# Altium footprint library PcbLib2.PcbLib: 15 footprints
Each footprint in its own frame and in the unit in brackets; x right, y up, seen from the top. Pads: shape width x height; smd on the part's side, far side on the other; paste and mask are expansions set on the pad; w line width, h text height; cw(c..) or ccw(c..) is an arc to the next point about the centre after c.
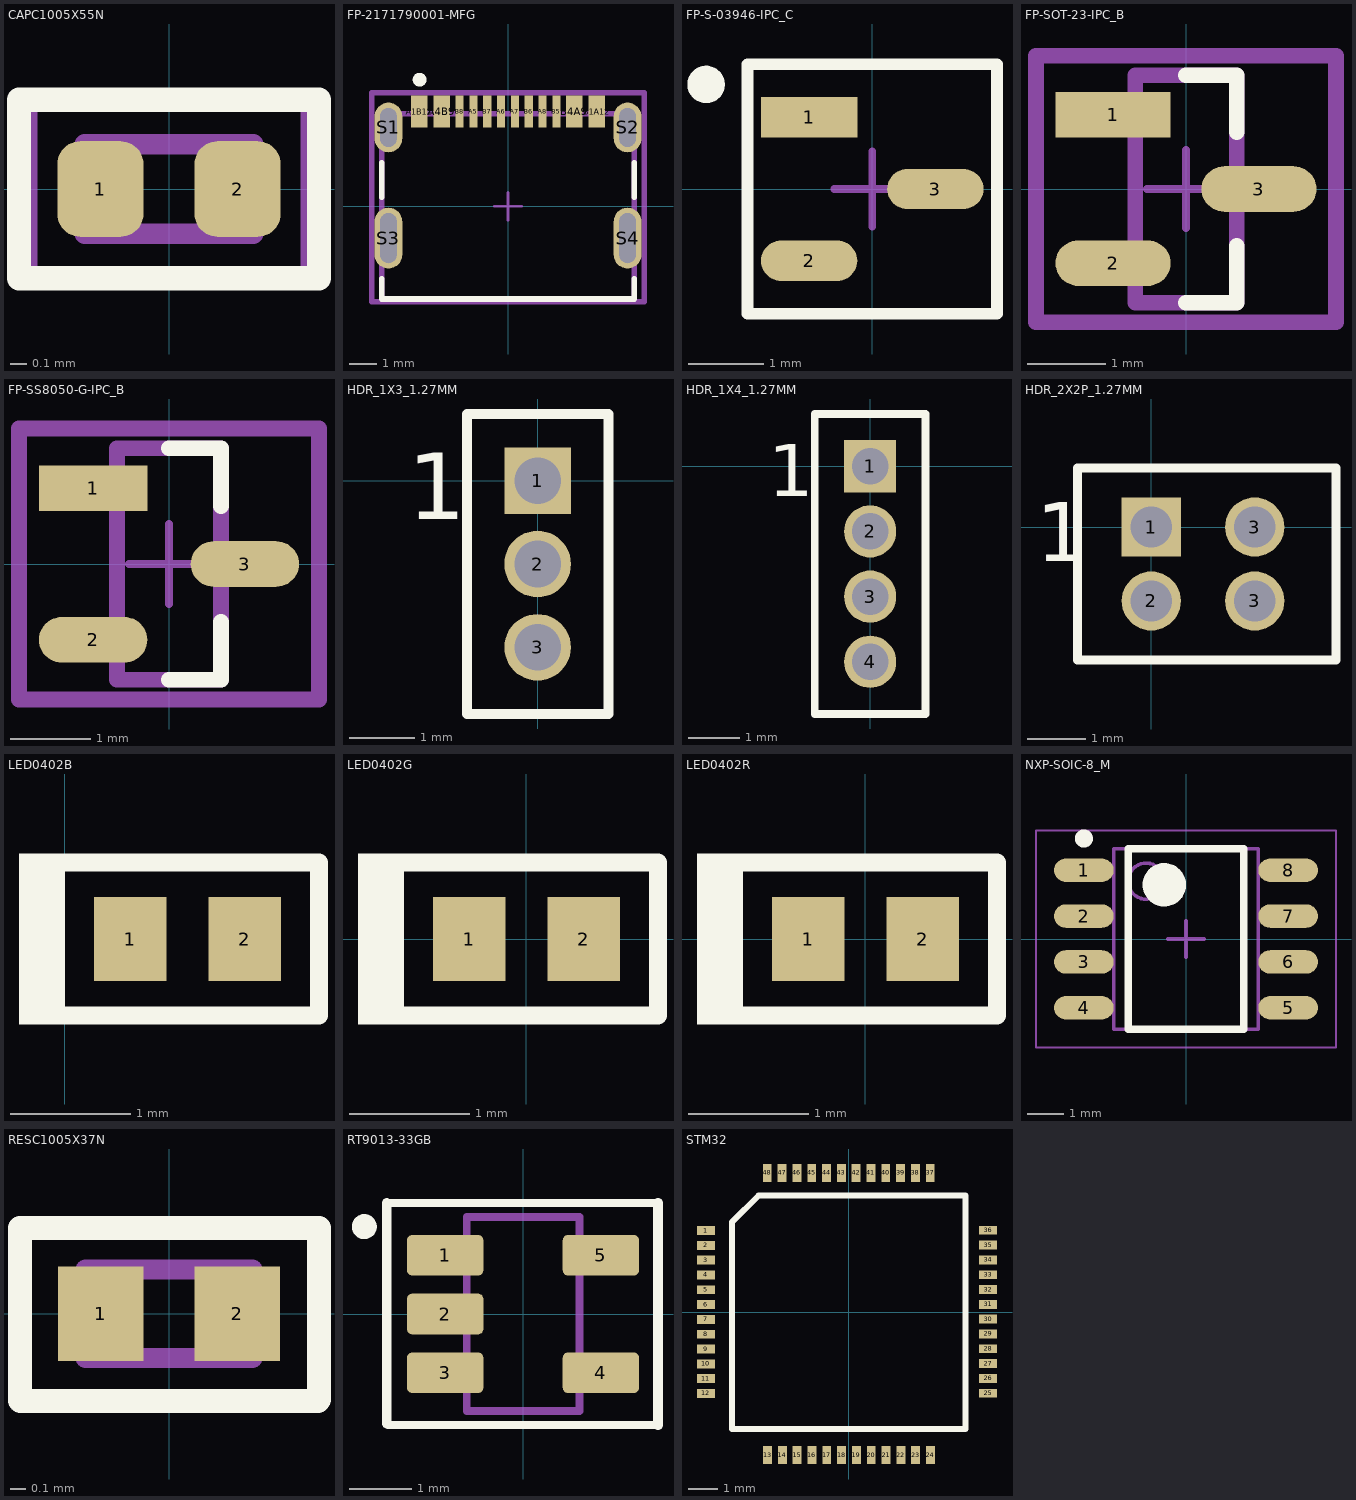
[diagram p0: the footprints below, top view; thin cyan lines are the x and y axes]

## CAPC1005X55N [mm]
pads (2):
  rrect53% 0.54x0.6 smd: 1(-0.43,0) 2(0.43,0)
Top Overlay:
  lines w0.152: -0.94,-0.559 0.94,-0.559 0.94,0.559 -0.94,0.559 -0.94,-0.559
Top 3D Body:
  lines w0.127: -0.53,-0.28 -0.53,0.28 0.53,0.28 0.53,-0.28 -0.53,-0.28
Top Courtyard:
  lines w0.05: -0.85,-0.54 -0.85,0.54 0.85,0.54 0.85,-0.54 -0.85,-0.54
3D body "CL05A105KL5NRNC.step": height 0.55, standoff 0, extent -0.5,-0.25 0.5,0.25

## FP-2171790001-MFG [mm]
pads (16):
  rect 0.6x1.15 smd paste+0 mask+0: A1B12(-3.2,3.425) A4B9(-2.4,3.425) B1A12(3.2,3.425) B4A9(2.4,3.425)
  rect 0.3x1.15 smd paste+0 mask+0: A5(-1.25,3.425) A6(-0.25,3.425) A7(0.25,3.425) A8(1.25,3.425) B5(1.75,3.425) B6(0.75,3.425) B7(-0.75,3.425) B8(-1.75,3.425)
  rrect100% 1x1.8 hole 1.4 slot 0.6 at 0 deg paste-2539.97 mask+0: S1(-4.32,2.85) S2(4.32,2.85)
  rrect100% 1x2.2 hole 1.8 slot 0.6 at 0 deg paste-2539.97 mask+0: S3(-4.32,-1.15) S4(4.32,-1.15)
Top Overlay:
  circle w0.25: c-3.195,4.575 r0.125
  lines w0.2: -4.57,-2.625 -4.57,-3.35 4.57,-3.35 4.57,-2.625 ; -4.57,0.325 -4.57,1.575 ; 4.57,0.325 4.57,1.575
Top Assembly:
  lines w0.2: -4.92,-3.45 -4.92,4.1 4.92,4.1 4.92,-3.45 -4.92,-3.45
  text ".Designator" at 0,0.512 h1
Top 3D Body:
  lines w0.2: -4.57,-3.35 -4.57,3.35 4.57,3.35 4.57,-3.35 -4.57,-3.35
Top Courtyard:
  lines w0.2: -4.92,-3.45 -4.92,4.1 4.92,4.1 4.92,-3.45 -4.92,-3.45
Top Component Center:
  lines w0.1: -0.5,0 0.5,0 ; 0,-0.5 0,0.5
3D body "Conn_Molex_2171790001_eec.STEP": height 0.25, standoff 0, extent -4.92,-3.45 4.92,4.1

## FP-S-03946-IPC_C [mm]
pads (3):
  rect 1.274x0.536 smd paste+0 mask+0: 1(-0.835,0.95)
  rrect100% 1.274x0.536 smd paste+0 mask+0: 2(-0.835,-0.95) 3(0.835,0)
Top Overlay:
  circle w0.254: c-2.199,1.384 r0.121
  lines w0.152: -1.651,-1.651 1.651,-1.651 1.651,1.651 -1.651,1.651 -1.651,-1.651
Top Component Center:
  lines w0.1: -0.5,0 0.5,0 ; 0,-0.5 0,0.5
3D body "Trans_Vishay_SQ2308CES-T1_BE3_eec.STEP": height 0.25, standoff 0, extent -1.572,-1.56 1.572,1.56

## FP-SOT-23-IPC_B [mm]
pads (3):
  rect 1.474x0.585 smd paste+0 mask+0: 1(-0.935,0.95)
  rrect100% 1.474x0.585 smd paste+0 mask+0: 2(-0.935,-0.95) 3(0.935,0)
Top Overlay:
  lines w0.2: 0,-1.46 0.65,-1.46 0.65,-0.73 ; 0,1.46 0.65,1.46 0.65,0.73
Top Assembly:
  lines w0.2: -1.922,-1.71 1.922,-1.71 1.922,1.71 -1.922,1.71 -1.922,-1.71
  text ".Designator" at 0,-0.001 h1
Top 3D Body:
  lines w0.2: -0.65,-1.46 0.65,-1.46 0.65,1.46 -0.65,1.46 -0.65,-1.46
Top Courtyard:
  lines w0.2: -1.922,-1.71 1.922,-1.71 1.922,1.71 -1.922,1.71 -1.922,-1.71
Top Component Center:
  lines w0.1: -0.5,0 0.5,0 ; 0,-0.5 0,0.5
3D body "Diode_Micro_Commercial_Co_ESDA6V1L-TP_eec.STEP": height 0.25, standoff 0, extent -1.922,-1.71 1.922,1.71

## FP-SS8050-G-IPC_B [mm]
pads (3):
  rect 1.357x0.572 smd paste+0 mask+0: 1(-0.951,0.95)
  rrect100% 1.357x0.572 smd paste+0 mask+0: 2(-0.951,-0.95) 3(0.951,0)
Top Overlay:
  lines w0.2: 0,-1.45 0.65,-1.45 0.65,-0.725 ; 0,1.45 0.65,1.45 0.65,0.725
Top Assembly:
  lines w0.2: -1.879,-1.7 1.879,-1.7 1.879,1.7 -1.879,1.7 -1.879,-1.7
  text ".Designator" at 0,-0.001 h1
Top 3D Body:
  lines w0.2: -0.65,-1.45 0.65,-1.45 0.65,1.45 -0.65,1.45 -0.65,-1.45
Top Courtyard:
  lines w0.2: -1.879,-1.7 1.879,-1.7 1.879,1.7 -1.879,1.7 -1.879,-1.7
Top Component Center:
  lines w0.1: -0.5,0 0.5,0 ; 0,-0.5 0,0.5
3D body "Trans_Comchip_SS8050-G_eec.STEP": height 0.25, standoff 0, extent -1.879,-1.7 1.879,1.7

## HDR_1X3_1.27MM [mil]
pads (3):
  rect 40x40 hole 28: 1(0,0)
  round 40 hole 28: 2(0,-50) 3(0,-100)
Top Overlay:
  lines w6: -42.5,-140 42.5,-140 42.5,40 -42.5,40 -42.5,-140
  text "1" at -78,-23 h40
3D body "SAMTEC-FTS-103-01-X-S.step": height 154, standoff -90, extent -42.5,-125 42.5,25

## HDR_1X4_1.27MM [mil]
pads (4):
  rect 40x40 hole 28: 1(0,0)
  round 40 hole 28: 2(0,-50) 3(0,-100) 4(0,-150)
Top Overlay:
  lines w6: -42.5,-190 -42.5,40 42.5,40 42.5,-190 -42.5,-190
  text "1" at -78,-23 h40
3D body "FTS-104-01-F-S.stp": height 154, standoff -90, extent -42.5,-175 42.5,25

## HDR_2X2P_1.27MM [mil]
pads (4):
  rect 40x40 hole 28: 1(0,0)
  round 40 hole 28: 2(0,-50) 3(70,-50) 3(70,0)
Top Overlay:
  lines w6: -50,-90 42.5,-90 125,-90 125,40 42.5,40 -50,40 -50,-90
  text "1" at -78,-23 h40
3D body "SAMTEC-FTS-102-01-X-S.step": height 154, standoff -90, extent 30,-75 115,25
3D body "SAMTEC-FTS-102-01-X-S.step": height 154, standoff -90, extent -41.17,-75.33 43.83,24.67

## LED0402B [mm]
pads (2):
  rect 0.6x0.7 smd: 1(0.541,2.286) 2(1.491,2.286)
Top Overlay:
  rectangle: -0.381,1.575 0,2.997
  lines w0.152: -0.279,1.651 2.108,1.651 2.108,2.921 -0.279,2.921 -0.279,1.651
3D body "VLMx15xx_0402.stp": height 0.32, standoff -0.03, extent 0.516,2.036 1.516,2.536

## LED0402G [mm]
pads (2):
  rect 0.6x0.7 smd: 1(-0.475,0) 2(0.475,0)
Top Overlay:
  rectangle: -1.397,-0.711 -1.016,0.711
  lines w0.152: -1.295,-0.635 -1.295,0.635 1.092,0.635 1.092,-0.635 -1.295,-0.635
3D body "User Library-LED_1006_G.STEP": height 0.2, standoff 0, extent -0.5,-0.3 0.5,0.3

## LED0402R [mm]
pads (2):
  rect 0.6x0.7 smd: 1(-0.475,0) 2(0.475,0)
Top Overlay:
  rectangle: -1.397,-0.711 -1.016,0.711
  lines w0.152: -1.295,-0.635 -1.295,0.635 1.092,0.635 1.092,-0.635 -1.295,-0.635
3D body "User Library-LED_1006_R.STEP": height 0.2, standoff 0, extent -0.5,-0.3 0.5,0.3

## NXP-SOIC-8_M [mm] "SOIC, 8-Leads, Body 5x4mm, Pitch 1.27mm, IPC Low Density"
height 1.75
pads (8):
  oval 1.65x0.65 smd: 1(-2.825,1.905) 2(-2.825,0.635) 3(-2.825,-0.635) 4(-2.825,-1.905) 5(2.825,-1.905) 6(2.825,-0.635) 7(2.825,0.635) 8(2.825,1.905)
Top Overlay:
  circle w0.25: c-2.825,2.78 r0.125
  circle w0.6: c-0.6,1.5 r0.3
  lines w0.2: -1.6,-2.5 -1.6,2.5 1.6,2.5 1.6,-2.5 -1.6,-2.5
Top 3D Body:
  circle w0.1: c-1.1,1.6 r0.5
  lines w0.1: -2,-2.5 -2,2.5 2,2.5 2,-2.5 -2,-2.5
Top Courtyard:
  lines w0.05: -4.15,-3 -4.15,3 4.15,3 4.15,-3 -4.15,-3
  lines w0.1: -0.5,0 0.5,0 ; 0,-0.5 0,0.5
3D body "SOIC127P600X175-8M.step": height 1.75, standoff 0, extent -3,-2.5 3,2.5

## RESC1005X37N [mm]
pads (2):
  rect 0.54x0.6 smd: 1(-0.432,0) 2(0.432,0)
Top Overlay:
  lines w0.152: 0.943,-0.552 -0.941,-0.552 -0.944,-0.55 -0.944,0.545 0.95,0.545 0.95,-0.544
Top 3D Body:
  lines w0.127: -0.53,-0.28 0.53,-0.28 0.53,0.28 -0.53,0.28 -0.53,-0.28
Top Courtyard:
  lines w0.05: -0.95,-0.55 0.95,-0.55 0.95,0.55 -0.95,0.55 -0.95,-0.55
3D body "step_temp.STEP": height 0.37, standoff 0, extent -0.5,-0.25 0.5,0.25

## RT9013-33GB [mm]
pads (5):
  rrect25% 1.22x0.65 smd: 1(-1.245,0.94) 2(-1.245,0) 3(-1.245,-0.94) 4(1.245,-0.94) 5(1.245,0.94)
Top Overlay:
  circle w0.2: c-2.54,1.397 r0.1
  lines w0.127: -2.181,1.778 2.159,1.778 ; -2.159,-1.778 2.159,-1.778
  lines w0.152: -2.181,-1.756 -2.181,1.778 ; 2.159,-1.778 2.159,1.778
Top 3D Body:
  lines w0.127: -0.9,-1.55 0.9,-1.55 0.9,1.55 -0.9,1.55 -0.9,-1.55
3D body "RT9013-33GB.step": height 1.3, standoff 0, extent -1.397,-1.448 1.397,1.448

## STM32 [mm]
pads (48):
  rect 0.6x0.3 smd: 1(-4.826,2.754) 2(-4.826,2.254) 3(-4.826,1.754) 4(-4.826,1.254) 5(-4.826,0.754) 6(-4.826,0.254) 7(-4.826,-0.246) 8(-4.826,-0.746) 9(-4.826,-1.246) 10(-4.826,-1.746) 11(-4.826,-2.246) 12(-4.826,-2.746) 25(4.699,-2.738) 26(4.699,-2.238) 27(4.699,-1.738) 28(4.699,-1.238) 29(4.699,-0.738) 30(4.699,-0.238) 31(4.699,0.262) 32(4.699,0.762) 33(4.699,1.262) 34(4.699,1.762) 35(4.699,2.262) 36(4.699,2.762)
  rect 0.3x0.6 smd: 13(-2.746,-4.826) 14(-2.246,-4.826) 15(-1.746,-4.826) 16(-1.246,-4.826) 17(-0.746,-4.826) 18(-0.246,-4.826) 19(0.254,-4.826) 20(0.754,-4.826) 21(1.254,-4.826) 22(1.754,-4.826) 23(2.254,-4.826) 24(2.754,-4.826) 37(2.746,4.699) 38(2.246,4.699) 39(1.746,4.699) 40(1.246,4.699) 41(0.746,4.699) 42(0.246,4.699) 43(-0.254,4.699) 44(-0.754,4.699) 45(-1.254,4.699) 46(-1.754,4.699) 47(-2.254,4.699) 48(-2.754,4.699)
Top Overlay:
  lines w0.203: -3.937,-3.937 -3.937,3.048 -3.048,3.937 3.937,3.937 3.937,-3.937 -3.937,-3.937
3D body "LQFP48-7x7mm_STM.step": height 1.6, standoff 0, extent -4.597,-4.597 4.597,4.597